# Altium footprint library PcbLib1.PcbLib: 20 footprints (part 2 of 2)
Each footprint in its own frame and in the unit in brackets; x right, y up, seen from the top. Pads: shape width x height; smd on the part's side, far side on the other; paste and mask are expansions set on the pad; w line width, h text height; cw(c..) or ccw(c..) is an arc to the next point about the centre after c.
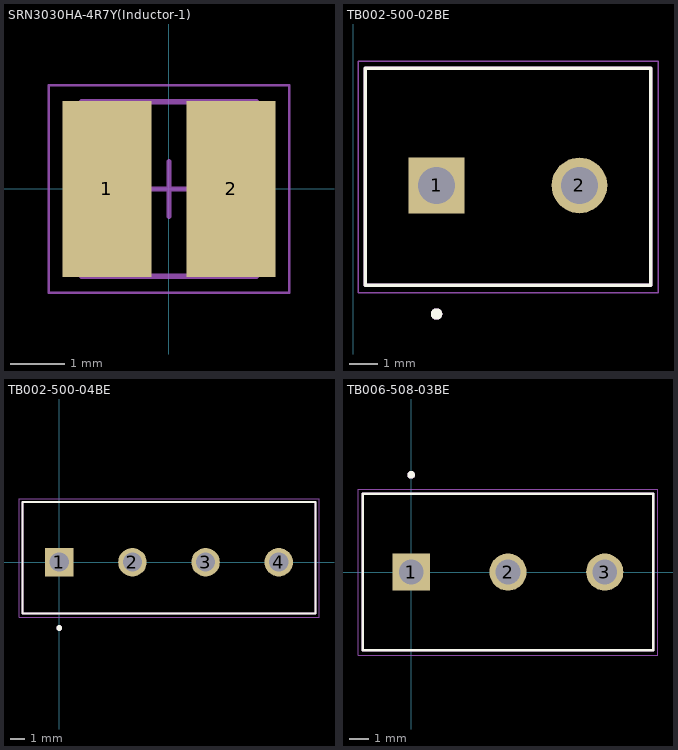
[diagram p1: the footprints below, top view; thin cyan lines are the x and y axes]

## SRN3030HA-4R7Y(Inductor-1) [mm] "Chip Inductor, 2-Leads, Body 3.00x3.00mm, IPC Medium Density"
height 3
pads (2):
  rect 1.63x3.22 smd: 1(-1.135,0) 2(1.135,0)
Mechanical 13:
  lines w0.1: -1.6,-1.6 1.6,-1.6 1.6,1.6 -1.6,1.6 -1.6,-1.6
Mechanical 15:
  lines w0.05: -2.2,-1.9 2.2,-1.9 2.2,1.9 -2.2,1.9 -2.2,-1.9
  lines w0.1: -0.5,0 0.5,0 ; 0,-0.5 0,0.5
3D body "INDC3030X30N.step": height 3, standoff 0, extent -1.6,-1.6 1.6,1.6

## TB002-500-02BE [mm]
pads (2):
  rect 1.95x1.95 / inner round 1.95 / far side rect 1.95x1.95 hole 1.3: 1(2.921,-41.783)
  round 1.95 hole 1.3: 2(7.921,-41.783)
Top Overlay:
  circle w0.2: c2.921,-46.283 r0.1
  lines w0.127: 0.421,-45.283 0.421,-37.683 10.421,-37.683 10.421,-45.283 0.421,-45.283
Mechanical 13:
  circle w0.2: c2.921,-46.283 r0.1
  lines w0.127: 0.421,-45.283 0.421,-37.683 10.421,-37.683 10.421,-45.283 0.421,-45.283
Mechanical 15:
  lines w0.05: 0.171,-45.533 10.671,-45.533 10.671,-37.433 0.171,-37.433 0.171,-45.533

## TB002-500-04BE [mm]
pads (4):
  rect 1.95x1.95 / inner round 1.95 / far side rect 1.95x1.95 hole 1.3: 1(0,0)
  round 1.95 hole 1.3: 2(5,0) 3(10,0) 4(15,0)
Top Overlay:
  circle w0.2: c0,-4.5 r0.1
  lines w0.127: -2.5,-3.5 17.5,-3.5 17.5,4.1 -2.5,4.1 -2.5,-3.5
Mechanical 13:
  circle w0.2: c0,-4.5 r0.1
  lines w0.127: -2.5,-3.5 17.5,-3.5 17.5,4.1 -2.5,4.1 -2.5,-3.5
Mechanical 15:
  lines w0.05: -2.75,-3.75 -2.75,4.35 17.75,4.35 17.75,-3.75 -2.75,-3.75

## TB006-508-03BE [mm]
pads (3):
  rect 1.95x1.95 / inner round 1.95 / far side rect 1.95x1.95 hole 1.3: 1(0,0)
  round 1.95 hole 1.3: 2(5.08,0) 3(10.16,0)
Top Overlay:
  circle w0.2: c0,5.1 r0.1
  lines w0.127: -2.54,-4.1 -2.54,4.1 12.7,4.1 12.7,-4.1 -2.54,-4.1
Mechanical 13:
  circle w0.2: c0,5.1 r0.1
  lines w0.127: -2.54,-4.1 -2.54,4.1 12.7,4.1 12.7,-4.1 -2.54,-4.1
Mechanical 15:
  lines w0.05: -2.79,-4.35 12.95,-4.35 12.95,4.35 -2.79,4.35 -2.79,-4.35
3D body "step_temp.STEP": height 10, standoff -3.8, extent -3.04,-4.1 12.7,4.1